# EAGLE library part CSR1010A05-IQQM-R (library CSR1010A05)
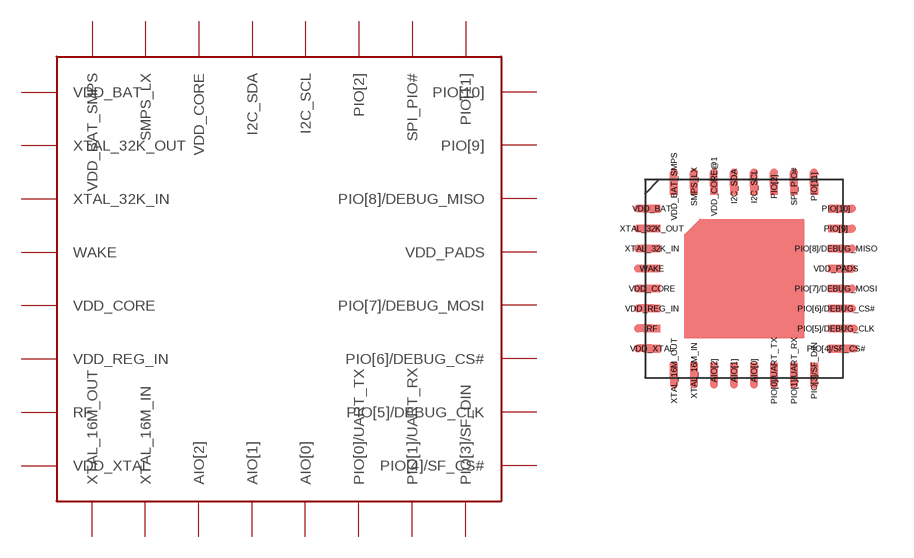
[diagram p0: symbol with the pads of CSR1010A05-IQQM-R; footprint CSR1010A05-IQQM-R]

Designator prefix -

## CSR1010A05-IQQM-R  [CSR1010A05-IQQM-R]
AIO[0]  AIO[0]  out
AIO[1]  AIO[1]  out
AIO[2]  AIO[2]  out
I2C_SCL  I2C_SCL  out
I2C_SDA  I2C_SDA  out
PIO[0]/UART_TX  PIO[0]/UART_TX  out
PIO[1]/UART_RX  PIO[1]/UART_RX  out
PIO[2]  PIO[2]  out
PIO[3]/SF_DIN  PIO[3]/SF_DIN  out
PIO[4]/SF_CS#  PIO[4]/SF_CS#  out
PIO[5]/DEBUG_CLK  PIO[5]/DEBUG_CLK  out
PIO[6]/DEBUG_CS#  PIO[6]/DEBUG_CS#  out
PIO[7]/DEBUG_MOSI  PIO[7]/DEBUG_MOSI  out
PIO[8]/DEBUG_MISO  PIO[8]/DEBUG_MISO  out
PIO[9]  PIO[9]  out
PIO[10]  PIO[10]  out
PIO[11]  PIO[11]  out
RF  RF  out
SMPS_LX  SMPS_LX  out
SPI_PIO#  SPI_PIO#  out
VDD_BAT  VDD_BAT  out
VDD_BAT_SMPS  VDD_BAT_SMPS  out
VDD_CORE  VDD_CORE  out
VDD_CORE@1  VDD_CORE
VDD_PADS  VDD_PADS  out
VDD_REG_IN  VDD_REG_IN  out
VDD_XTAL  VDD_XTAL  out
WAKE  WAKE  out
XTAL_16M_IN  XTAL_16M_IN  out
XTAL_16M_OUT  XTAL_16M_OUT  out
XTAL_32K_IN  XTAL_32K_IN  out
XTAL_32K_OUT  XTAL_32K_OUT  out

## Footprint CSR1010A05-IQQM-R (pad centres in mm)
smd 0.186 x 0.4: AIO[0] -0.2,-0.9; AIO[1] -0.7,-0.9; AIO[2] -1.2,-0.9; I2C_SCL -0.2,3.7; I2C_SDA -0.7,3.7; PIO[0]/UART_TX 0.3,-0.9; PIO[1]/UART_RX 0.8,-0.9; PIO[2] 0.3,3.7; SMPS_LX -1.7,3.7; SPI_PIO# 0.8,3.7; VDD_CORE@1 -1.2,3.7; XTAL_16M_IN -1.7,-0.9
smd 0.2 x 0.4: PIO[3]/SF_DIN 1.3,-0.9; PIO[11] 1.3,3.7; VDD_BAT_SMPS -2.2,3.7; XTAL_16M_OUT -2.2,-0.9
smd 0.4 x 0.2: PIO[4]/SF_CS# 1.85,-0.35; PIO[10] 1.85,3.15; VDD_BAT -2.75,3.15; VDD_XTAL -2.75,-0.35
smd 0.4 x 0.186: PIO[5]/DEBUG_CLK 1.85,0.15; PIO[6]/DEBUG_CS# 1.85,0.65; PIO[7]/DEBUG_MOSI 1.85,1.15; PIO[8]/DEBUG_MISO 1.85,2.15; PIO[9] 1.85,2.65; RF -2.75,0.15; VDD_CORE -2.75,1.15; VDD_PADS 1.85,1.65; VDD_REG_IN -2.75,0.65; WAKE -2.75,1.65; XTAL_32K_IN -2.75,2.15; XTAL_32K_OUT -2.75,2.65